# Altium schematic symbol library SCH - INTERFACE - TCA9535PWR.SchLib: 1 symbol
Pins are listed as number, name and electrical type; pins without a type are passive.

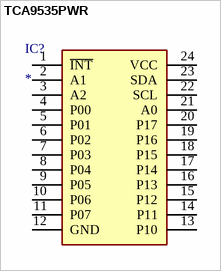
[diagram p0: symbol TCA9535PWR]

## TCA9535PWR
designator IC?
Integrated Circuit; Manufacturer_Name: Texas Instruments; Manufacturer_Part_Number: TCA9535PWR; Datasheet Link: http://www.ti.com/lit/gpn/tca9535; Height: 1.2mm; Mouser2 Part Number: 595-TCA9535PWR; Mouser2 Price/Stock: https://www.mouser.com/Search/Refine.aspx?Keyword=595-TCA9535PWR
footprint SOP65P640X120-24N
pins: 1 ~{INT}, 2 A1, 3 A2, 4 P00, 5 P01, 6 P02, 7 P03, 8 P04, 9 P05, 10 P06, 11 P07, 12 GND, 13 P10, 14 P11, 15 P12, 16 P13, 17 P14, 18 P15, 19 P16, 20 P17, 21 A0, 22 SCL, 23 SDA, 24 VCC